# Altium schematic symbol library pipe.SchLib: 1 symbol
Pins are listed as number, name and electrical type; pins without a type are passive.

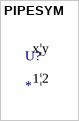
[diagram p0: symbol PIPESYM]

## PIPESYM
designator U?  Val|ue: 1|2
A|B=C
text: x|y